# Altium footprint library Common-Parts-Library.PcbLib: 530 footprints (part 6 of 34)
Each footprint in its own frame and in the unit in brackets; x right, y up, seen from the top. Pads: shape width x height; smd on the part's side, far side on the other; paste and mask are expansions set on the pad; w line width, h text height; cw(c..) or ccw(c..) is an arc to the next point about the centre after c.
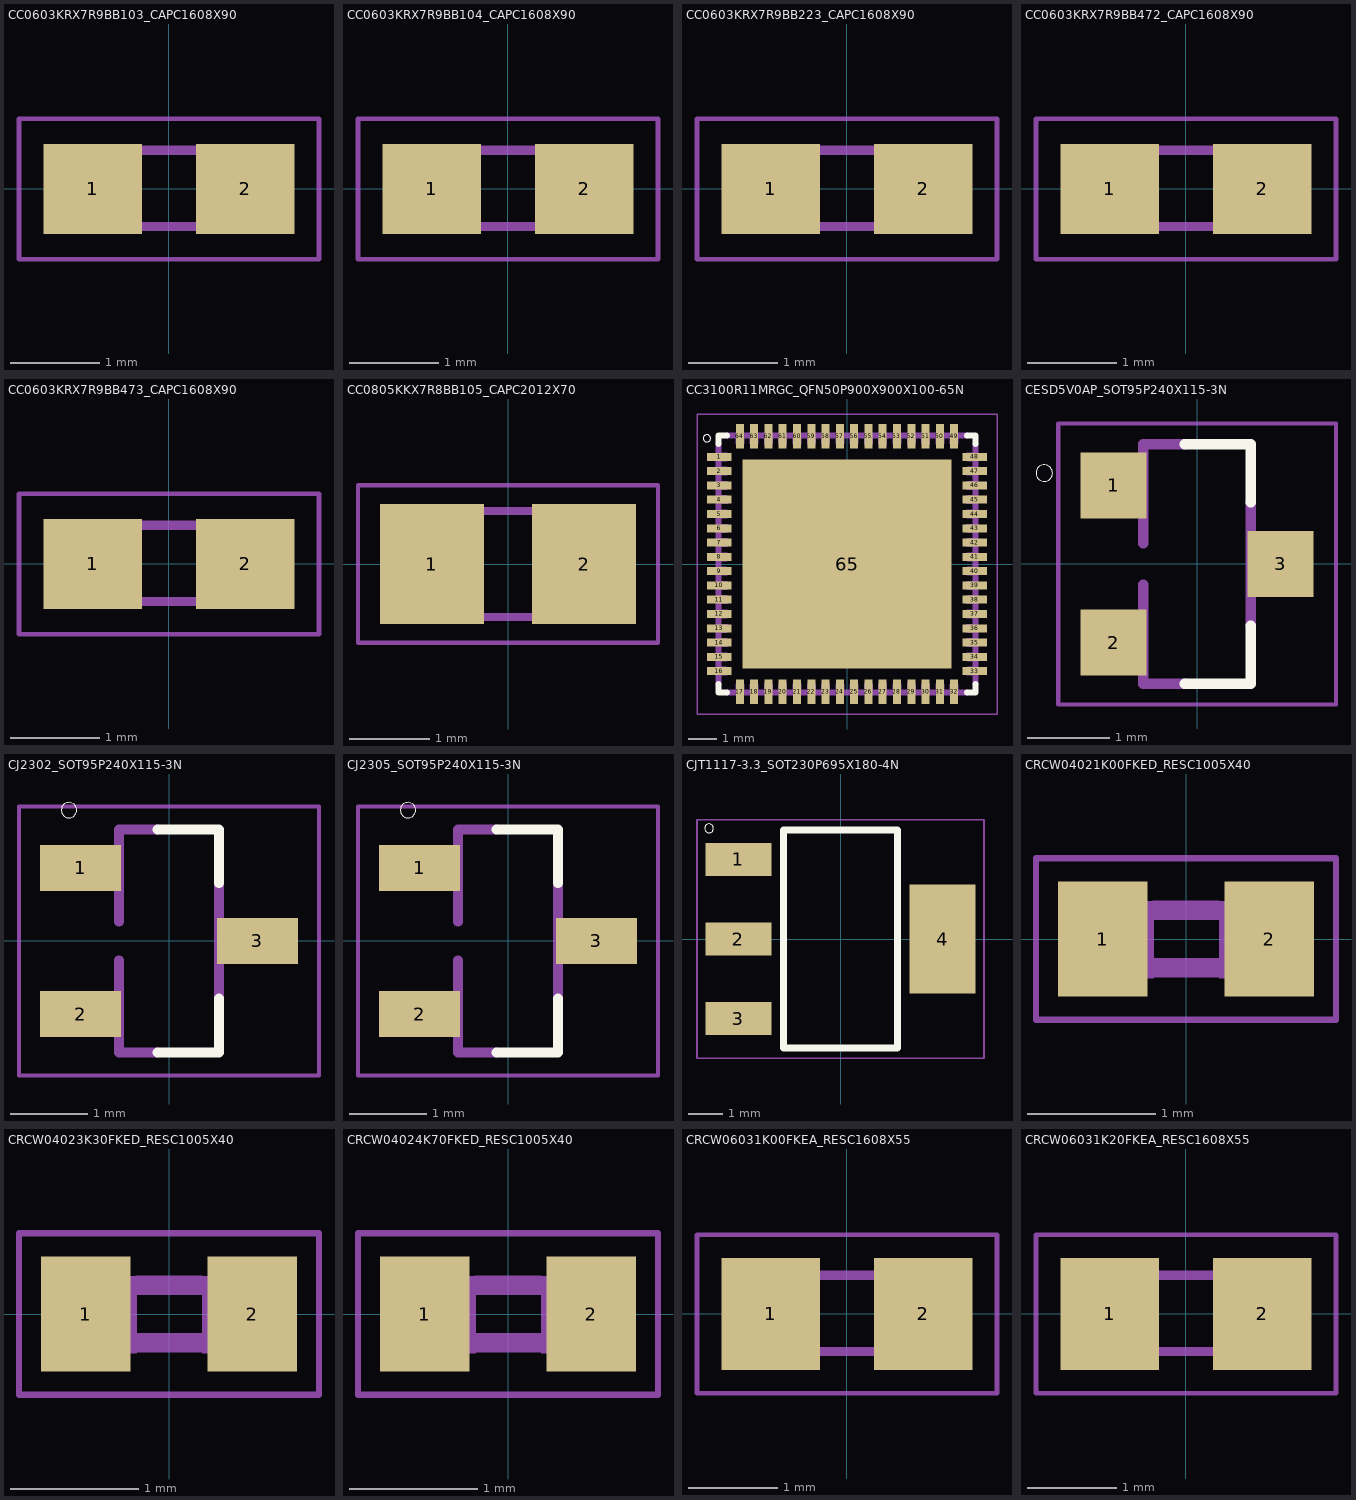
[diagram p5: the footprints below, top view; thin cyan lines are the x and y axes]

## CC0603KRX7R9BB103_CAPC1608X90 [mm]
pads (2):
  rect 1.1x1 smd: 1(-0.85,0) 2(0.85,0)
Mechanical 1:
  region: 0.331,0.48 0.83,0.48 0.83,-0.471 0.331,-0.471
  region: -0.839,0.48 -0.338,0.48 -0.338,-0.47 -0.839,-0.47
  lines w0.051: -1.673,-0.783 -1.673,0.783 1.673,0.783 1.673,-0.783 -1.673,-0.783
  lines w0.102: -0.356,-0.419 0.356,-0.419 ; -0.356,0.432 0.356,0.432

## CC0603KRX7R9BB104_CAPC1608X90 [mm]
pads (2):
  rect 1.1x1 smd: 1(-0.85,0) 2(0.85,0)
Mechanical 1:
  region: 0.331,0.48 0.83,0.48 0.83,-0.471 0.331,-0.471
  region: -0.841,0.48 -0.338,0.48 -0.338,-0.471 -0.841,-0.471
  lines w0.051: -1.673,-0.783 -1.673,0.783 1.673,0.783 1.673,-0.783 -1.673,-0.783
  lines w0.102: -0.356,-0.419 0.356,-0.419 ; -0.356,0.432 0.356,0.432

## CC0603KRX7R9BB223_CAPC1608X90 [mm]
pads (2):
  rect 1.1x1 smd: 1(-0.85,0) 2(0.85,0)
Mechanical 1:
  region: 0.331,0.48 0.83,0.48 0.83,-0.472 0.331,-0.472
  region: -0.84,0.48 -0.338,0.48 -0.338,-0.471 -0.84,-0.471
  lines w0.051: -1.673,-0.783 -1.673,0.783 1.673,0.783 1.673,-0.783 -1.673,-0.783
  lines w0.102: -0.356,-0.419 0.356,-0.419 ; -0.356,0.432 0.356,0.432

## CC0603KRX7R9BB472_CAPC1608X90 [mm]
pads (2):
  rect 1.1x1 smd: 1(-0.85,0) 2(0.85,0)
Mechanical 1:
  region: 0.331,0.48 0.83,0.48 0.83,-0.471 0.331,-0.471
  region: -0.839,0.48 -0.338,0.48 -0.338,-0.47 -0.839,-0.47
  lines w0.051: -1.673,-0.783 -1.673,0.783 1.673,0.783 1.673,-0.783 -1.673,-0.783
  lines w0.102: -0.356,-0.419 0.356,-0.419 ; -0.356,0.432 0.356,0.432

## CC0603KRX7R9BB473_CAPC1608X90 [mm]
pads (2):
  rect 1.1x1 smd: 1(-0.85,0) 2(0.85,0)
Mechanical 1:
  region: 0.331,0.48 0.83,0.48 0.83,-0.471 0.331,-0.471
  region: -0.84,0.48 -0.338,0.48 -0.338,-0.471 -0.84,-0.471
  lines w0.051: -1.673,-0.783 -1.673,0.783 1.673,0.783 1.673,-0.783 -1.673,-0.783
  lines w0.102: -0.356,-0.419 0.356,-0.419 ; -0.356,0.432 0.356,0.432

## CC0805KKX7R8BB105_CAPC2012X70 [mm]
pads (2):
  rect 1.3x1.5 smd: 1(-0.95,0) 2(0.95,0)
Mechanical 1:
  region: 0.357,0.726 1.106,0.726 1.106,-0.726 0.357,-0.726
  region: -1.093,0.726 -0.342,0.726 -0.342,-0.724 -1.093,-0.724
  lines w0.051: -1.873,-0.983 -1.873,0.983 1.873,0.983 1.873,-0.983 -1.873,-0.983
  lines w0.102: -0.381,0.66 0.381,0.66 ; -0.356,-0.66 0.381,-0.66

## CC3100R11MRGC_QFN50P900X900X100-65N [mm]
pads (65):
  rect 0.85x0.28 smd: 1(-4.475,3.75) 2(-4.475,3.25) 3(-4.475,2.75) 4(-4.475,2.25) 5(-4.475,1.75) 6(-4.475,1.25) 7(-4.475,0.75) 8(-4.475,0.25) 9(-4.475,-0.25) 10(-4.475,-0.75) 11(-4.475,-1.25) 12(-4.475,-1.75) 13(-4.475,-2.25) 14(-4.475,-2.75) 15(-4.475,-3.25) 16(-4.475,-3.75) 33(4.475,-3.75) 34(4.475,-3.25) 35(4.475,-2.75) 36(4.475,-2.25) 37(4.475,-1.75) 38(4.475,-1.25) 39(4.475,-0.75) 40(4.475,-0.25) 41(4.475,0.25) 42(4.475,0.75) 43(4.475,1.25) 44(4.475,1.75) 45(4.475,2.25) 46(4.475,2.75) 47(4.475,3.25) 48(4.475,3.75)
  rect 0.28x0.85 smd: 17(-3.75,-4.475) 18(-3.25,-4.475) 19(-2.75,-4.475) 20(-2.25,-4.475) 21(-1.75,-4.475) 22(-1.25,-4.475) 23(-0.75,-4.475) 24(-0.25,-4.475) 25(0.25,-4.475) 26(0.75,-4.475) 27(1.25,-4.475) 28(1.75,-4.475) 29(2.25,-4.475) 30(2.75,-4.475) 31(3.25,-4.475) 32(3.75,-4.475) 49(3.75,4.475) 50(3.25,4.475) 51(2.75,4.475) 52(2.25,4.475) 53(1.75,4.475) 54(1.25,4.475) 55(0.75,4.475) 56(0.25,4.475) 57(-0.25,4.475) 58(-0.75,4.475) 59(-1.25,4.475) 60(-1.75,4.475) 61(-2.25,4.475) 62(-2.75,4.475) 63(-3.25,4.475) 64(-3.75,4.475)
  rect 7.3x7.3 smd: 65(0,0)
Top Overlay:
  circle w0: c-4.9,4.4 r0.127
  lines w0.203: -4.5,-4.2 -4.5,-4.5 -4.2,-4.5 ; -4.5,4.2 -4.5,4.5 -4.2,4.5 ; 4.2,-4.5 4.5,-4.5 4.5,-4.2 ; 4.2,4.5 4.5,4.5 4.5,4.2
Top Paste:
  region: -2.304,2.3 2.3,2.3 2.3,-2.304 -2.304,-2.304
Mechanical 1:
  drawing of 72 lines, arcs and shapes, not listed

## CESD5V0AP_SOT95P240X115-3N [mm]
pads (3):
  rect 0.8x0.8 smd: 1(-1.01,0.95) 2(-1.01,-0.95) 3(1.01,0)
Top Overlay:
  circle w0: c-1.85,1.1 r0.1
  lines w0.127: -0.15,-1.45 0.65,-1.45 0.65,-0.75 ; -0.15,1.45 0.65,1.45 0.65,0.75
Mechanical 1:
  region: -0.712,1.169 -0.712,0.711 -1.296,0.711 -1.296,1.169
  region: -0.711,-0.711 -0.711,-1.17 -1.297,-1.17 -1.297,-0.711
  region: 1.296,0.228 1.296,-0.228 0.712,-0.228 0.712,0.228
  lines w0.051: -1.68,-1.7 1.68,-1.7 1.68,1.7 -1.68,1.7 -1.68,-1.7
  lines w0.127: -0.65,-0.25 -0.65,-1.45 -0.15,-1.45 ; -0.65,0.25 -0.65,1.45 -0.15,1.45 ; 0.65,-0.75 0.65,0.75

## CJ2302_SOT95P240X115-3N [mm]
pads (3):
  rect 1.05x0.6 smd: 1(-1.15,0.95) 2(-1.15,-0.95) 3(1.15,0)
Top Overlay:
  circle w0: c-1.3,1.7 r0.1
  lines w0.127: -0.15,-1.45 0.65,-1.45 0.65,-0.75 ; -0.15,1.45 0.65,1.45 0.65,0.75
Mechanical 1:
  region: -0.714,1.171 -0.714,0.71 -1.296,0.71 -1.296,1.171
  region: -0.711,-0.711 -0.711,-1.171 -1.298,-1.171 -1.298,-0.711
  region: 1.297,0.227 1.297,-0.228 0.712,-0.228 0.712,0.227
  lines w0.051: -1.95,-1.75 1.95,-1.75 1.95,1.75 -1.95,1.75 -1.95,-1.75
  lines w0.127: -0.65,-0.25 -0.65,-1.45 -0.15,-1.45 ; -0.65,0.25 -0.65,1.45 -0.15,1.45 ; 0.65,-0.75 0.65,0.75

## CJ2305_SOT95P240X115-3N [mm]
pads (3):
  rect 1.05x0.6 smd: 1(-1.15,0.95) 2(-1.15,-0.95) 3(1.15,0)
Top Overlay:
  circle w0: c-1.3,1.7 r0.1
  lines w0.127: -0.15,-1.45 0.65,-1.45 0.65,-0.75 ; -0.15,1.45 0.65,1.45 0.65,0.75
Mechanical 1:
  region: -0.715,1.172 -0.715,0.71 -1.296,0.71 -1.296,1.172
  region: -0.711,-0.711 -0.711,-1.171 -1.298,-1.171 -1.298,-0.711
  region: 1.296,0.228 1.296,-0.228 0.711,-0.228 0.711,0.228
  lines w0.051: -1.95,-1.75 1.95,-1.75 1.95,1.75 -1.95,1.75 -1.95,-1.75
  lines w0.127: -0.65,-0.25 -0.65,-1.45 -0.15,-1.45 ; -0.65,0.25 -0.65,1.45 -0.15,1.45 ; 0.65,-0.75 0.65,0.75

## CJT1117-3.3_SOT230P695X180-4N [mm]
pads (4):
  rect 1.9x0.95 smd: 1(-2.95,2.3) 2(-2.95,0) 3(-2.95,-2.3)
  rect 1.9x3.15 smd: 4(2.95,0)
Top Overlay:
  circle w0: c-3.8,3.2 r0.127
  lines w0.2: -1.65,-3.15 -1.65,3.15 1.65,3.15 1.65,-3.15 -1.65,-3.15
Mechanical 1:
  lines w0.05: -4.15,-3.45 -4.15,3.45 4.15,3.45 4.15,-3.45 -4.15,-3.45

## CRCW04021K00FKED_RESC1005X40 [mm]
pads (2):
  rect 0.7x0.9 smd: 1(-0.65,0) 2(0.65,0)
Mechanical 1:
  region: 0.259,0.295 0.559,0.295 0.559,-0.305 0.259,-0.305
  region: -0.556,0.295 -0.254,0.295 -0.254,-0.306 -0.556,-0.306
  lines w0.051: -1.173,-0.633 -1.173,0.633 1.173,0.633 1.173,-0.633 -1.173,-0.633
  lines w0.152: -0.245,-0.224 0.245,-0.224 ; -0.245,0.224 0.245,0.224

## CRCW04023K30FKED_RESC1005X40 [mm]
pads (2):
  rect 0.7x0.9 smd: 1(-0.65,0) 2(0.65,0)
Mechanical 1:
  region: 0.26,0.295 0.559,0.295 0.559,-0.306 0.26,-0.306
  region: -0.555,0.295 -0.254,0.295 -0.254,-0.305 -0.555,-0.305
  lines w0.051: -1.173,-0.633 -1.173,0.633 1.173,0.633 1.173,-0.633 -1.173,-0.633
  lines w0.152: -0.245,-0.224 0.245,-0.224 ; -0.245,0.224 0.245,0.224

## CRCW04024K70FKED_RESC1005X40 [mm]
pads (2):
  rect 0.7x0.9 smd: 1(-0.65,0) 2(0.65,0)
Mechanical 1:
  region: 0.259,0.295 0.559,0.295 0.559,-0.306 0.259,-0.306
  region: -0.555,0.295 -0.254,0.295 -0.254,-0.306 -0.555,-0.306
  lines w0.051: -1.173,-0.633 -1.173,0.633 1.173,0.633 1.173,-0.633 -1.173,-0.633
  lines w0.152: -0.245,-0.224 0.245,-0.224 ; -0.245,0.224 0.245,0.224

## CRCW06031K00FKEA_RESC1608X55 [mm]
pads (2):
  rect 1.1x1.25 smd: 1(-0.85,0) 2(0.85,0)
Mechanical 1:
  region: 0.331,0.48 0.83,0.48 0.83,-0.471 0.331,-0.471
  region: -0.84,0.48 -0.338,0.48 -0.338,-0.471 -0.84,-0.471
  lines w0.051: -1.673,-0.883 -1.673,0.883 1.673,0.883 1.673,-0.883 -1.673,-0.883
  lines w0.102: -0.356,-0.419 0.356,-0.419 ; -0.356,0.432 0.356,0.432

## CRCW06031K20FKEA_RESC1608X55 [mm]
pads (2):
  rect 1.1x1.25 smd: 1(-0.85,0) 2(0.85,0)
Mechanical 1:
  region: 0.331,0.48 0.83,0.48 0.83,-0.472 0.331,-0.472
  region: -0.839,0.48 -0.338,0.48 -0.338,-0.47 -0.839,-0.47
  lines w0.051: -1.673,-0.883 -1.673,0.883 1.673,0.883 1.673,-0.883 -1.673,-0.883
  lines w0.102: -0.356,-0.419 0.356,-0.419 ; -0.356,0.432 0.356,0.432